# Altium footprint library USBBSRA.PcbLib: 1 footprints
Each footprint in its own frame and in the unit in brackets; x right, y up, seen from the top. Pads: shape width x height; smd on the part's side, far side on the other; paste and mask are expansions set on the pad; w line width, h text height; cw(c..) or ccw(c..) is an arc to the next point about the centre after c.
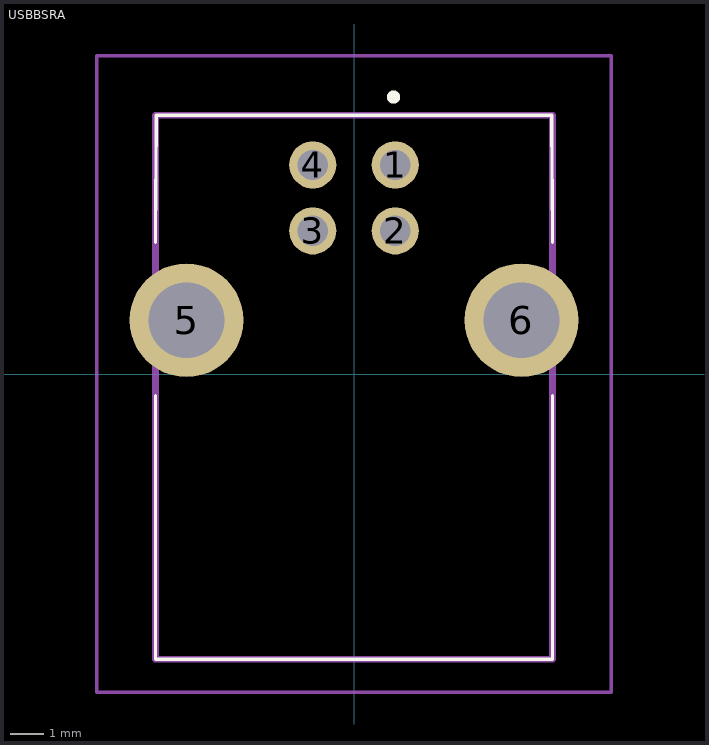
[diagram p0: the footprint, top view; thin cyan lines are the x and y axes]

## USBBSRA [mm]
pads (6):
  round 1.431 hole 0.92: 1(1.25,6.34) 2(1.25,4.34) 3(-1.25,4.34) 4(-1.25,6.34)
  round 3.45 hole 2.3: 5(-5.08,1.63) 6(5.08,1.63)
Top Overlay:
  lines w0.1: -6.02,-0.65 -6.02,-8.65 6.02,-8.65 6.02,-0.65 ; -6.02,4 -6,7.85 6,7.85 6.02,4
  lines w0.2: 1.1,8.4 1.1,8.4 ; 1.1,8.4 cw(c1.2,8.4) 1.3,8.4 ; 1.1,8.4 ccw(c1.2,8.4) 1.3,8.4 ; 1.3,8.4 1.3,8.4
Mechanical 15:
  lines w0.2: -6.02,-8.65 6.02,-8.65 6.02,7.85 -6.02,7.85 -6.02,-8.65
Mechanical 20:
  lines w0.1: -7.805,-9.65 7.805,-9.65 7.805,9.65 -7.805,9.65 -7.805,-9.65